# Altium footprint library Galio-connectors.PcbLib: 64 footprints (part 3 of 4)
Each footprint in its own frame and in the unit in brackets; x right, y up, seen from the top. Pads: shape width x height; smd on the part's side, far side on the other; paste and mask are expansions set on the pad; w line width, h text height; cw(c..) or ccw(c..) is an arc to the next point about the centre after c.
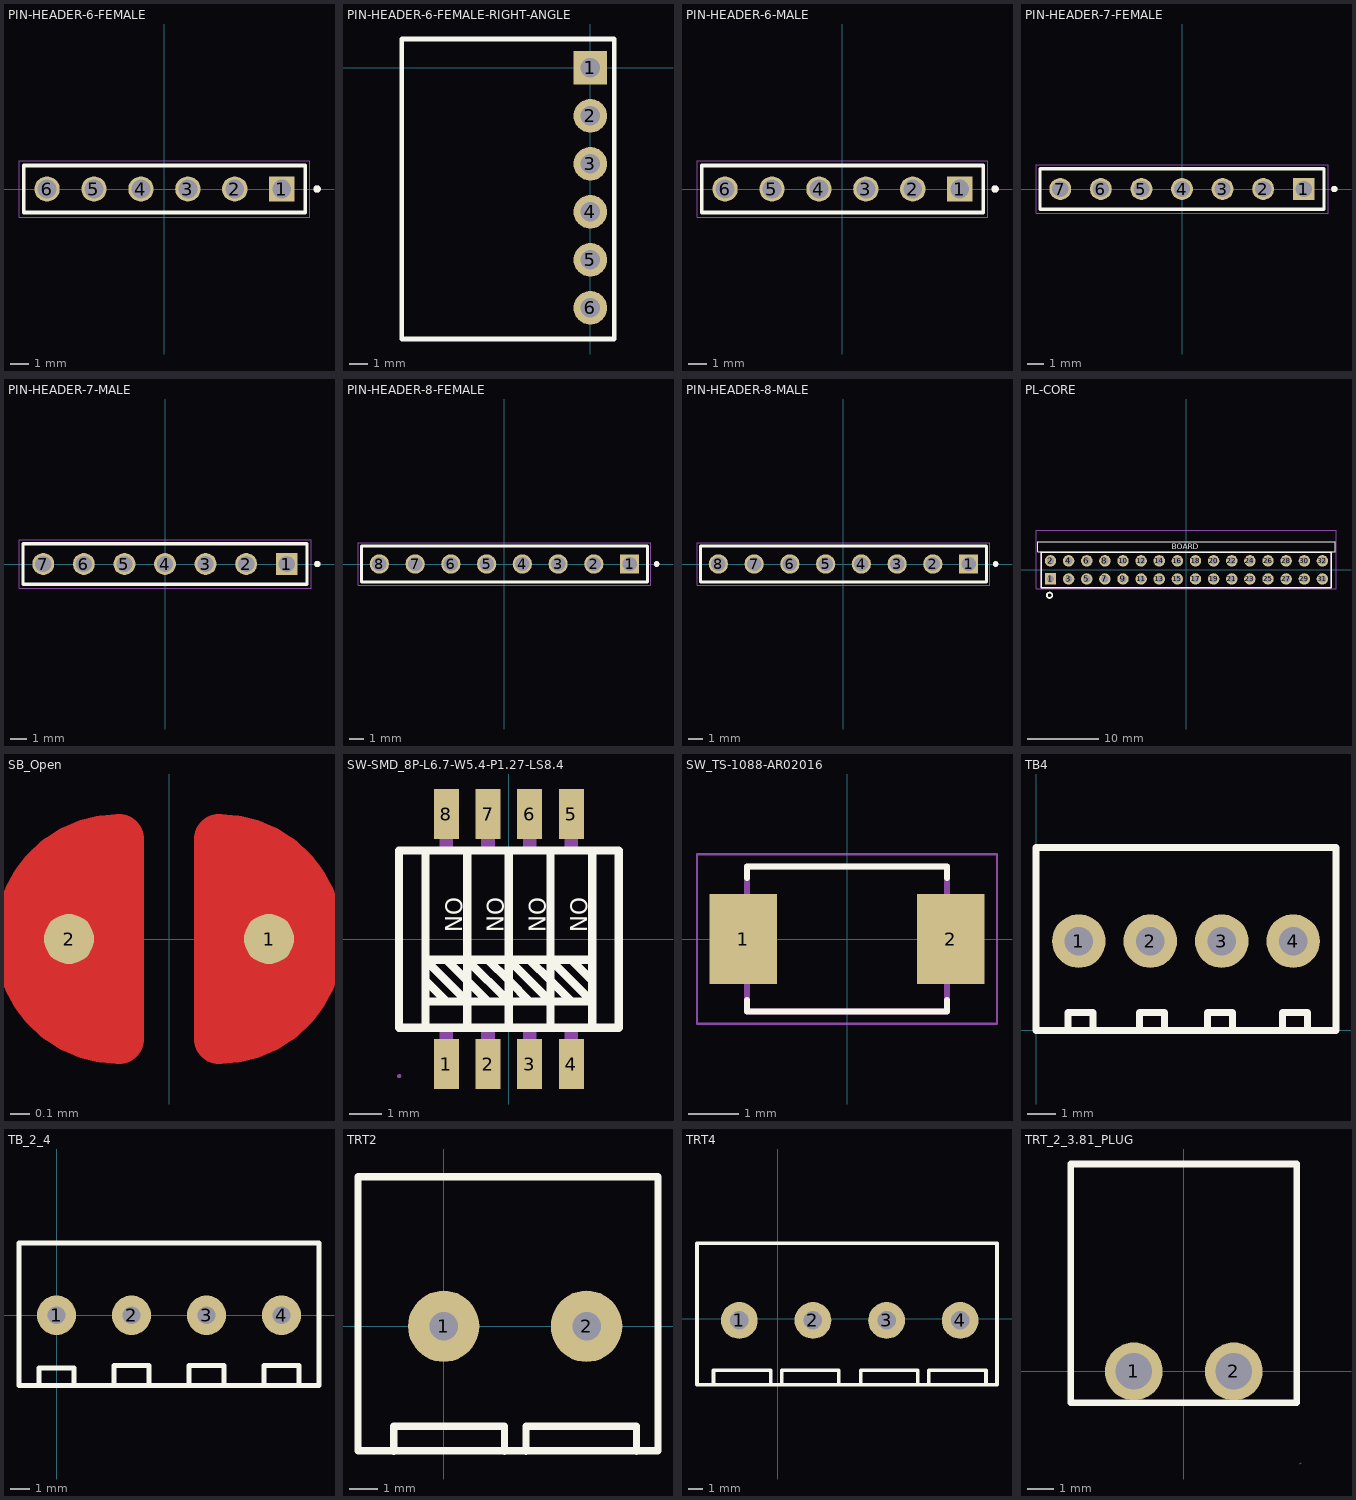
[diagram p2: the footprints below, top view; thin cyan lines are the x and y axes]

## PIN-HEADER-6-FEMALE [mm]
pads (6):
  rect 1.37x1.37 hole 1.02: 1(6.35,0)
  round 1.37 hole 1.02: 2(3.81,0) 3(1.27,0) 4(-1.27,0) 5(-3.81,0) 6(-6.35,0)
Top Overlay:
  circle w0.2: c8.27,0 r0.1
  lines w0.2: -7.62,-1.27 7.62,-1.27 7.62,1.27 -7.62,1.27 -7.62,-1.27
Mechanical 13:
  circle w0.2: c8.27,0 r0.1
  lines w0.1: -7.62,-1.27 -7.62,1.27 ; -7.62,-1.27 7.62,-1.27 ; -7.62,-1.27 -7.62,1.27 ; -7.62,1.27 7.62,1.27 ; -7.62,1.27 7.62,1.27 ; 7.62,-1.27 7.62,1.27 ; 7.62,-1.27 7.62,1.27
Mechanical 15:
  lines w0.05: -7.87,-1.52 7.87,-1.52 7.87,1.52 -7.87,1.52 -7.87,-1.52
3D body "PIN-HEADER-6-FEMALE.step": height 8.5, standoff -3.2, extent -7.62,-1.27 7.62,1.27

## PIN-HEADER-6-FEMALE-RIGHT-ANGLE [mil]
pads (6):
  rect 70x70 hole 40: 1(0,0)
  round 70 hole 40: 2(0,-100) 3(0,-200) 4(0,-300) 5(0,-400) 6(0,-500)
Top Overlay:
  lines w10: -393,-565 50,-565 50,60 -393,60 -393,-565
3D body "H254_90deg_6pin.STEP": height 101.18, standoff -140.43, extent -394.7,-549.99 12.83,50.01

## PIN-HEADER-6-MALE [mm]
pads (6):
  rect 1.37x1.37 hole 1.02: 1(6.35,0)
  round 1.37 hole 1.02: 2(3.81,0) 3(1.27,0) 4(-1.27,0) 5(-3.81,0) 6(-6.35,0)
Top Overlay:
  circle w0.2: c8.27,0 r0.1
  lines w0.2: -7.62,-1.27 -7.62,1.27 7.62,1.27 7.62,-1.27 -7.62,-1.27
Mechanical 13:
  circle w0.2: c8.27,0 r0.1
  lines w0.1: -7.62,-1.27 -7.62,1.27 ; -7.62,-1.27 7.62,-1.27 ; -7.62,-1.27 -7.62,1.27 ; -7.62,1.27 7.62,1.27 ; -7.62,1.27 7.62,1.27 ; 7.62,-1.27 7.62,1.27 ; 7.62,-1.27 7.62,1.27
Mechanical 15:
  lines w0.05: -7.87,-1.52 -7.87,1.52 7.87,1.52 7.87,-1.52 -7.87,-1.52
3D body "MTSW-106-06-T-S-100.stp": height 5.08, standoff -2.54, extent -7.62,-1.27 7.62,1.27

## PIN-HEADER-7-FEMALE [mm]
pads (7):
  rect 1.37x1.37 hole 1.02: 1(7.62,0)
  round 1.37 hole 1.02: 2(5.08,0) 3(2.54,0) 4(0,0) 5(-2.54,0) 6(-5.08,0) 7(-7.62,0)
Top Overlay:
  circle w0.2: c9.54,0 r0.1
  lines w0.2: -8.89,-1.27 8.89,-1.27 8.89,1.27 -8.89,1.27 -8.89,-1.27
Mechanical 13:
  circle w0.2: c9.54,0 r0.1
  lines w0.1: -8.89,-1.27 -8.89,1.27 ; -8.89,-1.27 8.89,-1.27 ; -8.89,-1.27 -8.89,1.27 ; -8.89,1.27 8.89,1.27 ; -8.89,1.27 8.89,1.27 ; 8.89,-1.27 8.89,1.27 ; 8.89,-1.27 8.89,1.27
Mechanical 15:
  lines w0.05: -9.14,-1.52 9.14,-1.52 9.14,1.52 -9.14,1.52 -9.14,-1.52
3D body "PIN-HEADER-7-FEMALE.step": height 8.5, standoff -3.2, extent -8.89,-1.27 8.89,1.27

## PIN-HEADER-7-MALE [mm]
pads (7):
  rect 1.37x1.37 hole 1.02: 1(7.62,0)
  round 1.37 hole 1.02: 2(5.08,0) 3(2.54,0) 4(0,0) 5(-2.54,0) 6(-5.08,0) 7(-7.62,0)
Top Overlay:
  circle w0.2: c9.54,0 r0.1
  lines w0.2: -8.89,-1.27 8.89,-1.27 8.89,1.27 -8.89,1.27 -8.89,-1.27
Mechanical 13:
  circle w0.2: c9.54,0 r0.1
  lines w0.1: -8.89,-1.27 -8.89,1.27 ; -8.89,-1.27 8.89,-1.27 ; -8.89,-1.27 -8.89,1.27 ; -8.89,1.27 8.89,1.27 ; -8.89,1.27 8.89,1.27 ; 8.89,-1.27 8.89,1.27 ; 8.89,-1.27 8.89,1.27
Mechanical 15:
  lines w0.05: -9.14,-1.52 9.14,-1.52 9.14,1.52 -9.14,1.52 -9.14,-1.52
3D body "MTSW-107-06-T-S-100.stp": height 5.08, standoff -2.54, extent -8.89,-1.27 8.89,1.27

## PIN-HEADER-8-FEMALE [mm]
pads (8):
  rect 1.37x1.37 hole 1.02: 1(8.89,0)
  round 1.37 hole 1.02: 2(6.35,0) 3(3.81,0) 4(1.27,0) 5(-1.27,0) 6(-3.81,0) 7(-6.35,0) 8(-8.89,0)
Top Overlay:
  circle w0.2: c10.81,0 r0.1
  lines w0.2: -10.16,-1.27 10.16,-1.27 10.16,1.27 -10.16,1.27 -10.16,-1.27
Mechanical 13:
  circle w0.2: c10.81,0 r0.1
  lines w0.1: -10.16,-1.27 -10.16,1.27 ; -10.16,-1.27 10.16,-1.27 ; -10.16,-1.27 -10.16,1.27 ; -10.16,1.27 10.16,1.27 ; -10.16,1.27 10.16,1.27 ; 10.16,-1.27 10.16,1.27 ; 10.16,-1.27 10.16,1.27
Mechanical 15:
  lines w0.05: -10.41,-1.52 10.41,-1.52 10.41,1.52 -10.41,1.52 -10.41,-1.52
3D body "PIN-HEADER-8-FEMALE.step": height 8.5, standoff -3.2, extent -10.16,-1.27 10.16,1.27

## PIN-HEADER-8-MALE [mm]
pads (8):
  rect 1.37x1.37 hole 1.02: 1(8.89,0)
  round 1.37 hole 1.02: 2(6.35,0) 3(3.81,0) 4(1.27,0) 5(-1.27,0) 6(-3.81,0) 7(-6.35,0) 8(-8.89,0)
Top Overlay:
  circle w0.2: c10.81,0 r0.1
  lines w0.2: -10.16,-1.27 -10.16,1.27 10.16,1.27 10.16,-1.27 -10.16,-1.27
Mechanical 13:
  circle w0.2: c10.81,0 r0.1
  lines w0.1: -10.16,-1.27 -10.16,1.27 ; -10.16,-1.27 10.16,-1.27 ; -10.16,-1.27 -10.16,1.27 ; -10.16,1.27 10.16,1.27 ; -10.16,1.27 10.16,1.27 ; 10.16,-1.27 10.16,1.27 ; 10.16,-1.27 10.16,1.27
Mechanical 15:
  lines w0.05: -10.41,-1.52 -10.41,1.52 10.41,1.52 10.41,-1.52 -10.41,-1.52
3D body "MTSW-108-06-T-S-110.stp": height 5.33, standoff -2.29, extent -10.16,-1.27 10.16,1.27

## PL-CORE [mil]
pads (32):
  rect 63x63 hole 40.2 paste+0 mask+2: 1(-750,-50)
  round 63 hole 40.2 paste+0 mask+2: 2(-750,50) 3(-650,-50) 4(-650,50) 5(-550,-50) 6(-550,50) 7(-450,-50) 8(-450,50) 9(-350,-50) 10(-350,50) 11(-250,-50) 12(-250,50) 13(-150,-50) 14(-150,50) 15(-50,-50) 16(-50,50) 17(50,-50) 18(50,50) 19(150,-50) 20(150,50) 21(250,-50) 22(250,50) 23(350,-50) 24(350,50) 25(450,-50) 26(450,50) 27(550,-50) 28(550,50) 29(650,-50) 30(650,50) 31(750,-50) 32(750,50)
Top Overlay:
  circle w10: c-755,-140 r15
  lines w6: -820,100 -820,155 820,155 820,100 -820,100
  lines w7.9: -800,-98.5 -800,98.4 ; 800,-98.5 800,98.4
  lines w8: -800,-98.5 800,-98.5 ; -800,98.4 800,98.4
  text "BOARD" at -80,115 h30
Mechanical 6:
  lines w2: -800,-100 -800,100 800,100 800,-100 -800,-100
Mechanical 8:
  region: -797.7,-100 -798.1,-101.3 -799.1,-102.2 -800.4,-102.4 -801.6,-101.8 -802.3,-100.7 -802.3,-99.4 -801.6,-98.3 -800.4,-97.7 -799.1,-97.9 -798.1,-98.8
Mechanical 9:
  drawing of 32 lines, arcs and shapes, not listed
Mechanical 15:
  lines w6: -830,-105 -830,220 825,220 825,-105 -830,-105
3D body "TSW-116-07-L-D.stp": height 330, standoff -100, extent -800,-100 800,100

## SB_Open [mil]
pads (2):
  round 10 smd mask+0: 1(20,0) 2(-20,0)
Top Layer:
  region: 10,23.33 20,20 30,10 30,5 30,-10 20,-20 10,-20
  region: -10,-23.33 -20,-20 -30,-10 -30,-5 -30,10 -20,20 -10,20
  lines w10: -10,-20 cw(c-10,0) -10,20 -10,-20 ; 10,-20 ccw(c10,0) 10,20 10,-20
Top Solder:
  circle w29: c-10,0 r11
  circle w29: c10,0 r11
  lines w4: -11.67,23.33 10,23.33 ; -10,-23.33 11.67,-23.33

## SW-SMD_8P-L6.7-W5.4-P1.27-LS8.4 [mil]
pads (8):
  rect 30x60 smd: 1(-75,-150) 2(-25,-150) 3(25,-150) 4(75,-150) 5(75,150) 6(25,150) 7(-25,150) 8(-75,150)
Top Overlay:
  lines w10: -100,-100 -100,100 ; -100,-75 -50,-75 ; -100,-50 -75,-75 ; -75,-25 -50,-50 -25,-75 ; -25,-25 0,-50 25,-75 ; 25,-25 50,-50 75,-75 ; 75,-25 100,-50 ; 100,-100 100,100 ; 100,-25 50,-25 ; -50,-100 -50,100 ; -50,-100 -50,100 ; -50,-100 -50,100 ; -50,-100 -50,100 ; -50,-75 -100,-25 -50,-25 ; -50,-75 0,-75 ; -50,-25 0,-75 ; -50,-25 0,-25 ; 0,-100 0,100 ; 0,-100 0,100 ; 0,-100 0,100 ; 0,-75 50,-75 ; 0,-25 50,-25 ; 0,-25 50,-75 ; 50,-75 100,-75 50,-25 ; -131.9,-106.3 -131.9,106.3 131.8,106.3 131.8,-106.3 -131.9,-106.3 ; 50,-100 50,100 50,-100
  text "ON" at 73.6,50 h20
  text "ON" at 23.6,50 h20
  text "ON" at -26.4,50 h20
  text "ON" at -76.4,50 h20
Mechanical 2:
  region: -80.7,-145 -80.6,-142.6 -76.3,-142.6 -76.3,-121.2 -77.1,-120.4 -80,-120.6 -76.8,-117.4 -73.9,-117.5 -73.9,-142.6 -69.3,-142.6 -69.2,-145
  region: -30.7,-122.2 -30.4,-120.3 -29.6,-118.6 -28.2,-117.2 -26.5,-116.3 -24.5,-116 -22.5,-116 -20.7,-116.3 -19.1,-117.1 -17.8,-118.4 -16.9,-120.1 -16.6,-121.9 -16.6,-123.2 -26.8,-140.4 -14.6,-140.3 -14.5,-143.5 -31.2,-143.5 -31.3,-140.4 -19.5,-122.9 -19.9,-121.1 -20.9,-119.6 -21.2,-119.4 -21.5,-119.3 -26.5,-119.3 -27.3,-119.6 -28,-120.2 -28.2,-121 -28.2,-121.9
Mechanical 6:
  lines w2: -131.5,-106.3 131.5,-106.3 131.5,106.3 -131.5,106.3 -131.5,-106.3
Mechanical 7:
  region: 82.8,132.1 82.8,105.9 67.1,105.9 67.1,132.1
  region: 82.8,-105.9 82.8,-132.1 67.1,-132.1 67.1,-105.9
  region: -67.2,-105.9 -67.2,-132.1 -82.9,-132.1 -82.9,-105.9
  region: -67.2,132.1 -67.2,105.9 -82.9,105.9 -82.9,132.1
  region: -17.2,132.1 -17.2,105.9 -32.9,105.9 -32.9,132.1
  region: -17.2,-105.9 -17.2,-132.1 -32.9,-132.1 -32.9,-105.9
  region: 32.8,-105.9 32.8,-132.1 17.1,-132.1 17.1,-105.9
  region: 32.8,132.1 32.8,105.9 17.1,105.9 17.1,132.1
Mechanical 8:
  region: -129.2,-164.4 -129.6,-165.6 -130.6,-166.5 -131.9,-166.7 -133.1,-166.2 -133.8,-165 -133.8,-163.7 -133.1,-162.6 -131.9,-162 -130.6,-162.2 -129.6,-163.1
Mechanical 9:
  region: 82.8,164.4 82.8,131.7 67.1,131.7 67.1,164.4
  region: 82.8,-131.7 82.8,-164.4 67.1,-164.4 67.1,-131.7
  region: -67.2,-131.7 -67.2,-164.4 -82.9,-164.4 -82.9,-131.7
  region: -67.2,164.4 -67.2,131.7 -82.9,131.7 -82.9,164.4
  region: -17.2,164.4 -17.2,131.7 -32.9,131.7 -32.9,164.4
  region: -17.2,-131.7 -17.2,-164.4 -32.9,-164.4 -32.9,-131.7
  region: 32.8,-131.7 32.8,-164.4 17.1,-164.4 17.1,-131.7
  region: 32.8,164.4 32.8,131.7 17.1,131.7 17.1,164.4
3D body "416131160804_complete.step": height 102.96, standoff -1.37, extent -123.03,-166.14 123.03,166.14

## SW_TS-1088-AR02016 [mm]
height 2
pads (2):
  rect 1.35x1.8 smd: 1(-2.075,0) 2(2.075,0)
Top Overlay:
  lines w0.127: -2,-1.22 -2,-1.45 2,-1.45 2,-1.22 ; -2,1.22 -2,1.45 2,1.45 2,1.22
Mechanical 13:
  lines w0.127: -2,-1.45 -2,1.45 2,1.45 2,-1.45 -2,-1.45
Mechanical 15:
  lines w0.05: -3,-1.7 3,-1.7 3,1.7 -3,1.7 -3,-1.7
3D body "step_temp.STEP": height 2, standoff 0, extent -2.4,-1.45 2.4,1.45

## TB4 [mil]
pads (4):
  round 75 hole 40: 1(60,125) 2(160,125) 3(260,125) 4(360,125)
Top Overlay:
  lines w10: 45,4.09 45,25 80,25 80,4.09 ; 145,4.09 145,25 180,25 180,4.09 ; 240,4.09 240,25 275,25 275,4.09 ; 345,0 345,25 380,25 380,0 ; 0,0 320,0 405,0 420,0 420,255.91 320,255.91 0,255.91 0,0
3D body "c-282834-4-c-3d.stp": height 400, standoff -127.56, extent 0.95,-2.94 419.06,252.96

## TB_2_4 [mm]
pads (4):
  round 2 hole 0.9: 1(0,0) 2(3.81,0) 3(7.62,0) 4(11.43,0)
Top Overlay:
  lines w0.254: -0.889,-3.556 -0.889,-2.667 0.889,-2.667 0.889,-3.556 ; 2.921,-3.429 2.921,-2.54 4.699,-2.54 4.699,-3.429 ; 6.731,-3.429 6.731,-2.54 7.175,-2.54 8.064,-2.54 8.509,-2.54 8.509,-3.429 ; 10.541,-3.429 10.541,-2.54 10.986,-2.54 11.874,-2.54 12.319,-2.54 12.319,-3.429 ; -1.905,-3.556 5.715,-3.556 9.525,-3.556 13.335,-3.556 13.335,3.683 9.525,3.683 5.715,3.683 -1.905,3.683 -1.905,-3.556
3D body "14007.stp": height 8.5, standoff -3.5, extent -1.905,-3.617 13.335,3.683

## TRT2 [mil]
pads (2):
  round 100 hole 40: 1(0,0) 2(200,0)
Top Overlay:
  lines w10: -70,-175 -70,-140 85,-140 85,-175 ; 115,-175 115,-140 270,-140 270,-175 ; -120,-174.21 -120,209.33 300,209.33 300,-174.21 -120,-174.21
3D body "37752.stp": height 547.24, standoff -133.86, extent -126.44,-180 296.44,205.83

## TRT4 [mil]
pads (4):
  round 100 hole 50: 1(-105,-5) 2(95,-5) 3(295,-5) 4(495,-5)
Top Overlay:
  lines w10: -175,-175 -175,-140 -20,-140 -20,-175 ; 10,-175 10,-140 165,-140 165,-175 ; 225,-175 225,-140 380,-140 380,-175 ; 410,-175 410,-140 565,-140 565,-175 ; -220,-180 595,-180 595,205 -220,205 -220,-180
3D body "37754.stp": height 112.8, standoff -568.31, extent -223.29,-180 593.29,205.83

## TRT_2_3.81_PLUG [mm] "Header,Male Pin,Covered(4 Sided)"
pads (2):
  round 2.2 hole 1.4: 1(-1.905,0) 2(1.905,0)
Top Overlay:
  lines w0.254: -4.305,-1.2 4.305,-1.2 4.305,7.9 -4.305,7.9 -4.305,-1.2
Mechanical 15:
  lines w0.003: 4.42,-3.529 4.47,-3.478
3D body "15EDGRC-3.81-02P-14-00AH.STEP": height 7.2, standoff -3.4, extent -4.205,-1.194 4.205,8.006